# EAGLE library part CON-8X (library Library)
PIN HEADER
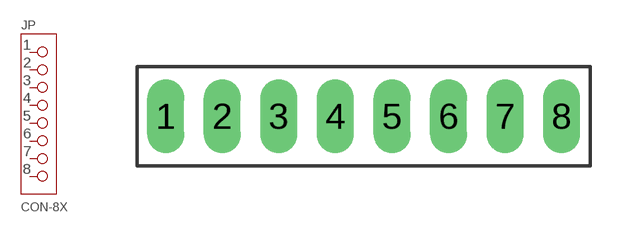
[diagram p1: symbol with the pads of TH-8X2.54; footprint TH-8X2.54]

Designator prefix JP

## CON-8X  [TH-8X2.54]
1  1  pas
2  2  pas
3  3  pas
4  4  pas
5  5  pas
6  6  pas
7  7  pas
8  8  pas

## Footprint TH-8X2.54 (pad centres in mm)
PIN HEADER
drill 1.1 long: 1 1.27,0; 2 3.81,0; 3 6.35,0; 4 8.89,0; 5 11.43,0; 6 13.97,0; 7 16.51,0; 8 19.05,0